# Altium schematic symbol library kmilo17pet-NSC_LDO.SchLib: 2675 symbols (part 44 of 65)
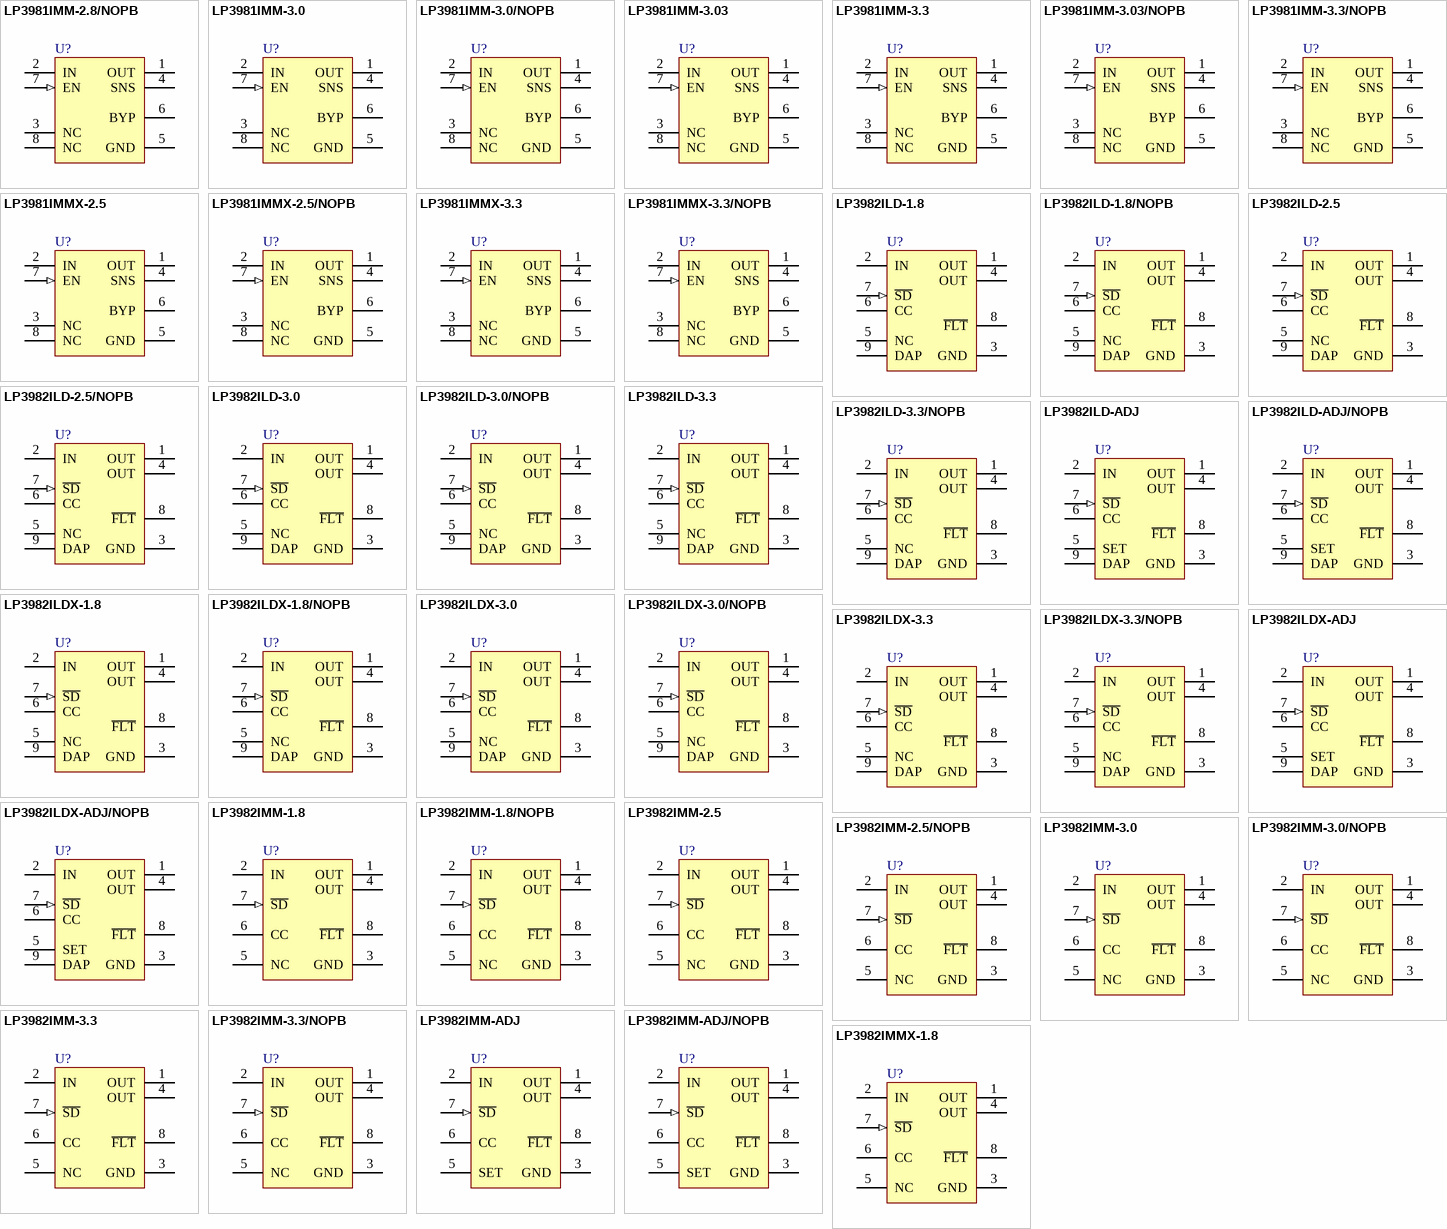
[diagram p110: symbols LP3981IMM-2.8/NOPB to LP3982IMMX-1.8]

## LP3982ILDX-3.0/NOPB
designator U?
Micropower, Ultra Low-Dropout, Low-Noise, 300mA CMOS Regulator, 8-pin LLP, Pb-Free; PartNumber: LP3982ILDX-3.0/NOPB; Manufacturer: National Semiconductor; PackageTopMarking: XYTT*LTB; PowerWise: N; CompType: LDO IC; High-Reliability: Y; DatasheetVersion: Mar-2006; PackageVersion: revB, Jun-2003; PackageReference: LDA08C; PackageDescription: LLP, Plastic, Dual, 2.5 x 3 x 0.75mm, 8 Lead, 0.5mm Pitch; RoHS: Y; PinCount: 8; Code_JEDEC: MO-229-WDED; ComponentLink1Description: Manufacturer URL; ComponentLink1URL: http://www.national.com/; ComponentLink2Description: LP3982 Datasheet; ComponentLink2URL: http://www.national.com/ds/LP/LP3982.pdf; ComponentLink3Description: LP3982 Web Page; ComponentLink3URL: http://www.national.com/pf/LP/LP3982.html; ComponentLink4Description: LDA08C Package Page; ComponentLink4URL: http://www.national.com/packaging/folders/lda08c.html
footprint LDA08C (PSON, 8-Leads, Body 2.5x3mm, Pitch 0.5mm, NSC Recommended)
pins: 1 OUT (power), 2 IN (power), 3 GND (power), 4 OUT (power), 5 NC, 6 CC, 7 ~{SD} (in), 8 ~{FLT} (oc), 9 DAP (power)

## LP3982ILDX-3.3
designator U?
Micropower, Ultra Low-Dropout, Low-Noise, 300mA CMOS Regulator, 8-pin LLP; PartNumber: LP3982ILDX-3.3; Manufacturer: National Semiconductor; PackageTopMarking: XYTT*LUB; PowerWise: N; CompType: LDO IC; High-Reliability: Y; DatasheetVersion: Mar-2006; PackageVersion: revB, Jun-2003; PackageReference: LDA08C; PackageDescription: LLP, Plastic, Dual, 2.5 x 3 x 0.75mm, 8 Lead, 0.5mm Pitch; RoHS: N; PinCount: 8; Code_JEDEC: MO-229-WDED; ComponentLink1Description: Manufacturer URL; ComponentLink1URL: http://www.national.com/; ComponentLink2Description: LP3982 Datasheet; ComponentLink2URL: http://www.national.com/ds/LP/LP3982.pdf; ComponentLink3Description: LP3982 Web Page; ComponentLink3URL: http://www.national.com/pf/LP/LP3982.html; ComponentLink4Description: LDA08C Package Page; ComponentLink4URL: http://www.national.com/packaging/folders/lda08c.html
footprint LDA08C (PSON, 8-Leads, Body 2.5x3mm, Pitch 0.5mm, NSC Recommended)
pins: 1 OUT (power), 2 IN (power), 3 GND (power), 4 OUT (power), 5 NC, 6 CC, 7 ~{SD} (in), 8 ~{FLT} (oc), 9 DAP (power)

## LP3982ILDX-3.3/NOPB
designator U?
Micropower, Ultra Low-Dropout, Low-Noise, 300mA CMOS Regulator, 8-pin LLP, Pb-Free; PartNumber: LP3982ILDX-3.3/NOPB; Manufacturer: National Semiconductor; PackageTopMarking: XYTT*LUB; PowerWise: N; CompType: LDO IC; High-Reliability: Y; DatasheetVersion: Mar-2006; PackageVersion: revB, Jun-2003; PackageReference: LDA08C; PackageDescription: LLP, Plastic, Dual, 2.5 x 3 x 0.75mm, 8 Lead, 0.5mm Pitch; RoHS: Y; PinCount: 8; Code_JEDEC: MO-229-WDED; ComponentLink1Description: Manufacturer URL; ComponentLink1URL: http://www.national.com/; ComponentLink2Description: LP3982 Datasheet; ComponentLink2URL: http://www.national.com/ds/LP/LP3982.pdf; ComponentLink3Description: LP3982 Web Page; ComponentLink3URL: http://www.national.com/pf/LP/LP3982.html; ComponentLink4Description: LDA08C Package Page; ComponentLink4URL: http://www.national.com/packaging/folders/lda08c.html
footprint LDA08C (PSON, 8-Leads, Body 2.5x3mm, Pitch 0.5mm, NSC Recommended)
pins: 1 OUT (power), 2 IN (power), 3 GND (power), 4 OUT (power), 5 NC, 6 CC, 7 ~{SD} (in), 8 ~{FLT} (oc), 9 DAP (power)

## LP3982ILDX-ADJ
designator U?
Micropower, Ultra Low-Dropout, Low-Noise, 300mA CMOS Regulator, 8-pin LLP; PartNumber: LP3982ILDX-ADJ; Manufacturer: National Semiconductor; PackageTopMarking: XYTT*LVB; PowerWise: N; CompType: LDO IC; High-Reliability: Y; DatasheetVersion: Mar-2006; PackageVersion: revB, Jun-2003; PackageReference: LDA08C; PackageDescription: LLP, Plastic, Dual, 2.5 x 3 x 0.75mm, 8 Lead, 0.5mm Pitch; RoHS: N; PinCount: 8; Code_JEDEC: MO-229-WDED; ComponentLink1Description: Manufacturer URL; ComponentLink1URL: http://www.national.com/; ComponentLink2Description: LP3982 Datasheet; ComponentLink2URL: http://www.national.com/ds/LP/LP3982.pdf; ComponentLink3Description: LP3982 Web Page; ComponentLink3URL: http://www.national.com/pf/LP/LP3982.html; ComponentLink4Description: LDA08C Package Page; ComponentLink4URL: http://www.national.com/packaging/folders/lda08c.html
footprint LDA08C (PSON, 8-Leads, Body 2.5x3mm, Pitch 0.5mm, NSC Recommended)
pins: 1 OUT (power), 2 IN (power), 3 GND (power), 4 OUT (power), 5 SET, 6 CC, 7 ~{SD} (in), 8 ~{FLT} (oc), 9 DAP (power)

## LP3982ILDX-ADJ/NOPB
designator U?
Micropower, Ultra Low-Dropout, Low-Noise, 300mA CMOS Regulator, 8-pin LLP, Pb-Free; PartNumber: LP3982ILDX-ADJ/NOPB; Manufacturer: National Semiconductor; PackageTopMarking: XYTT*LVB; PowerWise: N; CompType: LDO IC; High-Reliability: Y; DatasheetVersion: Mar-2006; PackageVersion: revB, Jun-2003; PackageReference: LDA08C; PackageDescription: LLP, Plastic, Dual, 2.5 x 3 x 0.75mm, 8 Lead, 0.5mm Pitch; RoHS: Y; PinCount: 8; Code_JEDEC: MO-229-WDED; ComponentLink1Description: Manufacturer URL; ComponentLink1URL: http://www.national.com/; ComponentLink2Description: LP3982 Datasheet; ComponentLink2URL: http://www.national.com/ds/LP/LP3982.pdf; ComponentLink3Description: LP3982 Web Page; ComponentLink3URL: http://www.national.com/pf/LP/LP3982.html; ComponentLink4Description: LDA08C Package Page; ComponentLink4URL: http://www.national.com/packaging/folders/lda08c.html
footprint LDA08C (PSON, 8-Leads, Body 2.5x3mm, Pitch 0.5mm, NSC Recommended)
pins: 1 OUT (power), 2 IN (power), 3 GND (power), 4 OUT (power), 5 SET, 6 CC, 7 ~{SD} (in), 8 ~{FLT} (oc), 9 DAP (power)

## LP3982IMM-1.8
designator U?
Micropower, Ultra Low-Dropout, Low-Noise, 300mA CMOS Regulator, 8-pin Mini SOIC; PartNumber: LP3982IMM-1.8; Manufacturer: National Semiconductor; PackageTopMarking: ZXTT*LENB; PowerWise: N; CompType: LDO IC; High-Reliability: Y; DatasheetVersion: Mar-2006; PackageVersion: revF, Apr-2008; PackageReference: MUA08A; PackageDescription: MINI SOIC, .118 x .118 x .034in, 8 Lead, .0256in Pitch; RoHS: N; PinCount: 8; Code_JEDEC: MO-187-AA; ComponentLink1Description: Manufacturer URL; ComponentLink1URL: http://www.national.com/; ComponentLink2Description: LP3982 Datasheet; ComponentLink2URL: http://www.national.com/ds/LP/LP3982.pdf; ComponentLink3Description: LP3982 Web Page; ComponentLink3URL: http://www.national.com/pf/LP/LP3982.html; ComponentLink4Description: MUA08A Package Page; ComponentLink4URL: http://www.national.com/packaging/folders/mua08a.html
footprint MUA08A_N (TSOP, 8-Leads, Body 3x3mm, Pitch 0.65mm, IPC Medium Density)
footprint MUA08A_L (TSOP, 8-Leads, Body 3x3mm, Pitch 0.65mm, IPC High Density)
footprint MUA08A_M (TSOP, 8-Leads, Body 3x3mm, Pitch 0.65mm, IPC Low Density)
pins: 1 OUT (power), 2 IN (power), 3 GND (power), 4 OUT (power), 5 NC, 6 CC, 7 ~{SD} (in), 8 ~{FLT} (oc)

## LP3982IMM-1.8/NOPB
designator U?
Micropower, Ultra Low-Dropout, Low-Noise, 300mA CMOS Regulator, 8-pin Mini SOIC, Pb-Free; PartNumber: LP3982IMM-1.8/NOPB; Manufacturer: National Semiconductor; PackageTopMarking: ZXTT*LENB; PowerWise: N; CompType: LDO IC; High-Reliability: Y; DatasheetVersion: Mar-2006; PackageVersion: revF, Apr-2008; PackageReference: MUA08A; PackageDescription: MINI SOIC, .118 x .118 x .034in, 8 Lead, .0256in Pitch; RoHS: Y; PinCount: 8; Code_JEDEC: MO-187-AA; ComponentLink1Description: Manufacturer URL; ComponentLink1URL: http://www.national.com/; ComponentLink2Description: LP3982 Datasheet; ComponentLink2URL: http://www.national.com/ds/LP/LP3982.pdf; ComponentLink3Description: LP3982 Web Page; ComponentLink3URL: http://www.national.com/pf/LP/LP3982.html; ComponentLink4Description: MUA08A Package Page; ComponentLink4URL: http://www.national.com/packaging/folders/mua08a.html
footprint MUA08A_N (TSOP, 8-Leads, Body 3x3mm, Pitch 0.65mm, IPC Medium Density)
footprint MUA08A_L (TSOP, 8-Leads, Body 3x3mm, Pitch 0.65mm, IPC High Density)
footprint MUA08A_M (TSOP, 8-Leads, Body 3x3mm, Pitch 0.65mm, IPC Low Density)
pins: 1 OUT (power), 2 IN (power), 3 GND (power), 4 OUT (power), 5 NC, 6 CC, 7 ~{SD} (in), 8 ~{FLT} (oc)

## LP3982IMM-2.5
designator U?
Micropower, Ultra Low-Dropout, Low-Noise, 300mA CMOS Regulator, 8-pin Mini SOIC; PartNumber: LP3982IMM-2.5; Manufacturer: National Semiconductor; PackageTopMarking: ZXTT*LEPB; PowerWise: N; CompType: LDO IC; High-Reliability: Y; DatasheetVersion: Mar-2006; PackageVersion: revF, Apr-2008; PackageReference: MUA08A; PackageDescription: MINI SOIC, .118 x .118 x .034in, 8 Lead, .0256in Pitch; RoHS: N; PinCount: 8; Code_JEDEC: MO-187-AA; ComponentLink1Description: Manufacturer URL; ComponentLink1URL: http://www.national.com/; ComponentLink2Description: LP3982 Datasheet; ComponentLink2URL: http://www.national.com/ds/LP/LP3982.pdf; ComponentLink3Description: LP3982 Web Page; ComponentLink3URL: http://www.national.com/pf/LP/LP3982.html; ComponentLink4Description: MUA08A Package Page; ComponentLink4URL: http://www.national.com/packaging/folders/mua08a.html
footprint MUA08A_N (TSOP, 8-Leads, Body 3x3mm, Pitch 0.65mm, IPC Medium Density)
footprint MUA08A_L (TSOP, 8-Leads, Body 3x3mm, Pitch 0.65mm, IPC High Density)
footprint MUA08A_M (TSOP, 8-Leads, Body 3x3mm, Pitch 0.65mm, IPC Low Density)
pins: 1 OUT (power), 2 IN (power), 3 GND (power), 4 OUT (power), 5 NC, 6 CC, 7 ~{SD} (in), 8 ~{FLT} (oc)

## LP3982IMM-2.5/NOPB
designator U?
Micropower, Ultra Low-Dropout, Low-Noise, 300mA CMOS Regulator, 8-pin Mini SOIC, Pb-Free; PartNumber: LP3982IMM-2.5/NOPB; Manufacturer: National Semiconductor; PackageTopMarking: ZXTT*LEPB; PowerWise: N; CompType: LDO IC; High-Reliability: Y; DatasheetVersion: Mar-2006; PackageVersion: revF, Apr-2008; PackageReference: MUA08A; PackageDescription: MINI SOIC, .118 x .118 x .034in, 8 Lead, .0256in Pitch; RoHS: Y; PinCount: 8; Code_JEDEC: MO-187-AA; ComponentLink1Description: Manufacturer URL; ComponentLink1URL: http://www.national.com/; ComponentLink2Description: LP3982 Datasheet; ComponentLink2URL: http://www.national.com/ds/LP/LP3982.pdf; ComponentLink3Description: LP3982 Web Page; ComponentLink3URL: http://www.national.com/pf/LP/LP3982.html; ComponentLink4Description: MUA08A Package Page; ComponentLink4URL: http://www.national.com/packaging/folders/mua08a.html
footprint MUA08A_N (TSOP, 8-Leads, Body 3x3mm, Pitch 0.65mm, IPC Medium Density)
footprint MUA08A_L (TSOP, 8-Leads, Body 3x3mm, Pitch 0.65mm, IPC High Density)
footprint MUA08A_M (TSOP, 8-Leads, Body 3x3mm, Pitch 0.65mm, IPC Low Density)
pins: 1 OUT (power), 2 IN (power), 3 GND (power), 4 OUT (power), 5 NC, 6 CC, 7 ~{SD} (in), 8 ~{FLT} (oc)

## LP3982IMM-3.0
designator U?
Micropower, Ultra Low-Dropout, Low-Noise, 300mA CMOS Regulator, 8-pin Mini SOIC; PartNumber: LP3982IMM-3.0; Manufacturer: National Semiconductor; PackageTopMarking: ZXTT*LETB; PowerWise: N; CompType: LDO IC; High-Reliability: Y; DatasheetVersion: Mar-2006; PackageVersion: revF, Apr-2008; PackageReference: MUA08A; PackageDescription: MINI SOIC, .118 x .118 x .034in, 8 Lead, .0256in Pitch; RoHS: N; PinCount: 8; Code_JEDEC: MO-187-AA; ComponentLink1Description: Manufacturer URL; ComponentLink1URL: http://www.national.com/; ComponentLink2Description: LP3982 Datasheet; ComponentLink2URL: http://www.national.com/ds/LP/LP3982.pdf; ComponentLink3Description: LP3982 Web Page; ComponentLink3URL: http://www.national.com/pf/LP/LP3982.html; ComponentLink4Description: MUA08A Package Page; ComponentLink4URL: http://www.national.com/packaging/folders/mua08a.html
footprint MUA08A_N (TSOP, 8-Leads, Body 3x3mm, Pitch 0.65mm, IPC Medium Density)
footprint MUA08A_L (TSOP, 8-Leads, Body 3x3mm, Pitch 0.65mm, IPC High Density)
footprint MUA08A_M (TSOP, 8-Leads, Body 3x3mm, Pitch 0.65mm, IPC Low Density)
pins: 1 OUT (power), 2 IN (power), 3 GND (power), 4 OUT (power), 5 NC, 6 CC, 7 ~{SD} (in), 8 ~{FLT} (oc)

## LP3982IMM-3.0/NOPB
designator U?
Micropower, Ultra Low-Dropout, Low-Noise, 300mA CMOS Regulator, 8-pin Mini SOIC, Pb-Free; PartNumber: LP3982IMM-3.0/NOPB; Manufacturer: National Semiconductor; PackageTopMarking: ZXTT*LETB; PowerWise: N; CompType: LDO IC; High-Reliability: Y; DatasheetVersion: Mar-2006; PackageVersion: revF, Apr-2008; PackageReference: MUA08A; PackageDescription: MINI SOIC, .118 x .118 x .034in, 8 Lead, .0256in Pitch; RoHS: Y; PinCount: 8; Code_JEDEC: MO-187-AA; ComponentLink1Description: Manufacturer URL; ComponentLink1URL: http://www.national.com/; ComponentLink2Description: LP3982 Datasheet; ComponentLink2URL: http://www.national.com/ds/LP/LP3982.pdf; ComponentLink3Description: LP3982 Web Page; ComponentLink3URL: http://www.national.com/pf/LP/LP3982.html; ComponentLink4Description: MUA08A Package Page; ComponentLink4URL: http://www.national.com/packaging/folders/mua08a.html
footprint MUA08A_N (TSOP, 8-Leads, Body 3x3mm, Pitch 0.65mm, IPC Medium Density)
footprint MUA08A_L (TSOP, 8-Leads, Body 3x3mm, Pitch 0.65mm, IPC High Density)
footprint MUA08A_M (TSOP, 8-Leads, Body 3x3mm, Pitch 0.65mm, IPC Low Density)
pins: 1 OUT (power), 2 IN (power), 3 GND (power), 4 OUT (power), 5 NC, 6 CC, 7 ~{SD} (in), 8 ~{FLT} (oc)

## LP3982IMM-3.3
designator U?
Micropower, Ultra Low-Dropout, Low-Noise, 300mA CMOS Regulator, 8-pin Mini SOIC; PartNumber: LP3982IMM-3.3; Manufacturer: National Semiconductor; PackageTopMarking: ZXTT*LEUB; PowerWise: N; CompType: LDO IC; High-Reliability: Y; DatasheetVersion: Mar-2006; PackageVersion: revF, Apr-2008; PackageReference: MUA08A; PackageDescription: MINI SOIC, .118 x .118 x .034in, 8 Lead, .0256in Pitch; RoHS: N; PinCount: 8; Code_JEDEC: MO-187-AA; ComponentLink1Description: Manufacturer URL; ComponentLink1URL: http://www.national.com/; ComponentLink2Description: LP3982 Datasheet; ComponentLink2URL: http://www.national.com/ds/LP/LP3982.pdf; ComponentLink3Description: LP3982 Web Page; ComponentLink3URL: http://www.national.com/pf/LP/LP3982.html; ComponentLink4Description: MUA08A Package Page; ComponentLink4URL: http://www.national.com/packaging/folders/mua08a.html
footprint MUA08A_N (TSOP, 8-Leads, Body 3x3mm, Pitch 0.65mm, IPC Medium Density)
footprint MUA08A_L (TSOP, 8-Leads, Body 3x3mm, Pitch 0.65mm, IPC High Density)
footprint MUA08A_M (TSOP, 8-Leads, Body 3x3mm, Pitch 0.65mm, IPC Low Density)
pins: 1 OUT (power), 2 IN (power), 3 GND (power), 4 OUT (power), 5 NC, 6 CC, 7 ~{SD} (in), 8 ~{FLT} (oc)

## LP3982IMM-3.3/NOPB
designator U?
Micropower, Ultra Low-Dropout, Low-Noise, 300mA CMOS Regulator, 8-pin Mini SOIC, Pb-Free; PartNumber: LP3982IMM-3.3/NOPB; Manufacturer: National Semiconductor; PackageTopMarking: ZXTT*LEUB; PowerWise: N; CompType: LDO IC; High-Reliability: Y; DatasheetVersion: Mar-2006; PackageVersion: revF, Apr-2008; PackageReference: MUA08A; PackageDescription: MINI SOIC, .118 x .118 x .034in, 8 Lead, .0256in Pitch; RoHS: Y; PinCount: 8; Code_JEDEC: MO-187-AA; ComponentLink1Description: Manufacturer URL; ComponentLink1URL: http://www.national.com/; ComponentLink2Description: LP3982 Datasheet; ComponentLink2URL: http://www.national.com/ds/LP/LP3982.pdf; ComponentLink3Description: LP3982 Web Page; ComponentLink3URL: http://www.national.com/pf/LP/LP3982.html; ComponentLink4Description: MUA08A Package Page; ComponentLink4URL: http://www.national.com/packaging/folders/mua08a.html
footprint MUA08A_N (TSOP, 8-Leads, Body 3x3mm, Pitch 0.65mm, IPC Medium Density)
footprint MUA08A_L (TSOP, 8-Leads, Body 3x3mm, Pitch 0.65mm, IPC High Density)
footprint MUA08A_M (TSOP, 8-Leads, Body 3x3mm, Pitch 0.65mm, IPC Low Density)
pins: 1 OUT (power), 2 IN (power), 3 GND (power), 4 OUT (power), 5 NC, 6 CC, 7 ~{SD} (in), 8 ~{FLT} (oc)

## LP3982IMM-ADJ
designator U?
Micropower, Ultra Low-Dropout, Low-Noise, 300mA CMOS Regulator, 8-pin Mini SOIC; PartNumber: LP3982IMM-ADJ; Manufacturer: National Semiconductor; PackageTopMarking: ZXTT*LEVB; PowerWise: N; CompType: LDO IC; High-Reliability: Y; DatasheetVersion: Mar-2006; PackageVersion: revF, Apr-2008; PackageReference: MUA08A; PackageDescription: MINI SOIC, .118 x .118 x .034in, 8 Lead, .0256in Pitch; RoHS: N; PinCount: 8; Code_JEDEC: MO-187-AA; ComponentLink1Description: Manufacturer URL; ComponentLink1URL: http://www.national.com/; ComponentLink2Description: LP3982 Datasheet; ComponentLink2URL: http://www.national.com/ds/LP/LP3982.pdf; ComponentLink3Description: LP3982 Web Page; ComponentLink3URL: http://www.national.com/pf/LP/LP3982.html; ComponentLink4Description: MUA08A Package Page; ComponentLink4URL: http://www.national.com/packaging/folders/mua08a.html
footprint MUA08A_N (TSOP, 8-Leads, Body 3x3mm, Pitch 0.65mm, IPC Medium Density)
footprint MUA08A_L (TSOP, 8-Leads, Body 3x3mm, Pitch 0.65mm, IPC High Density)
footprint MUA08A_M (TSOP, 8-Leads, Body 3x3mm, Pitch 0.65mm, IPC Low Density)
pins: 1 OUT (power), 2 IN (power), 3 GND (power), 4 OUT (power), 5 SET, 6 CC, 7 ~{SD} (in), 8 ~{FLT} (oc)

## LP3982IMM-ADJ/NOPB
designator U?
Micropower, Ultra Low-Dropout, Low-Noise, 300mA CMOS Regulator, 8-pin Mini SOIC, Pb-Free; PartNumber: LP3982IMM-ADJ/NOPB; Manufacturer: National Semiconductor; PackageTopMarking: ZXTT*LEVB; PowerWise: N; CompType: LDO IC; High-Reliability: Y; DatasheetVersion: Mar-2006; PackageVersion: revF, Apr-2008; PackageReference: MUA08A; PackageDescription: MINI SOIC, .118 x .118 x .034in, 8 Lead, .0256in Pitch; RoHS: Y; PinCount: 8; Code_JEDEC: MO-187-AA; ComponentLink1Description: Manufacturer URL; ComponentLink1URL: http://www.national.com/; ComponentLink2Description: LP3982 Datasheet; ComponentLink2URL: http://www.national.com/ds/LP/LP3982.pdf; ComponentLink3Description: LP3982 Web Page; ComponentLink3URL: http://www.national.com/pf/LP/LP3982.html; ComponentLink4Description: MUA08A Package Page; ComponentLink4URL: http://www.national.com/packaging/folders/mua08a.html
footprint MUA08A_N (TSOP, 8-Leads, Body 3x3mm, Pitch 0.65mm, IPC Medium Density)
footprint MUA08A_L (TSOP, 8-Leads, Body 3x3mm, Pitch 0.65mm, IPC High Density)
footprint MUA08A_M (TSOP, 8-Leads, Body 3x3mm, Pitch 0.65mm, IPC Low Density)
pins: 1 OUT (power), 2 IN (power), 3 GND (power), 4 OUT (power), 5 SET, 6 CC, 7 ~{SD} (in), 8 ~{FLT} (oc)

## LP3982IMMX-1.8
designator U?
Micropower, Ultra Low-Dropout, Low-Noise, 300mA CMOS Regulator, 8-pin Mini SOIC; PartNumber: LP3982IMMX-1.8; Manufacturer: National Semiconductor; PackageTopMarking: ZXTT*LENB; PowerWise: N; CompType: LDO IC; High-Reliability: Y; DatasheetVersion: Mar-2006; PackageVersion: revF, Apr-2008; PackageReference: MUA08A; PackageDescription: MINI SOIC, .118 x .118 x .034in, 8 Lead, .0256in Pitch; RoHS: N; PinCount: 8; Code_JEDEC: MO-187-AA; ComponentLink1Description: Manufacturer URL; ComponentLink1URL: http://www.national.com/; ComponentLink2Description: LP3982 Datasheet; ComponentLink2URL: http://www.national.com/ds/LP/LP3982.pdf; ComponentLink3Description: LP3982 Web Page; ComponentLink3URL: http://www.national.com/pf/LP/LP3982.html; ComponentLink4Description: MUA08A Package Page; ComponentLink4URL: http://www.national.com/packaging/folders/mua08a.html
footprint MUA08A_N (TSOP, 8-Leads, Body 3x3mm, Pitch 0.65mm, IPC Medium Density)
footprint MUA08A_L (TSOP, 8-Leads, Body 3x3mm, Pitch 0.65mm, IPC High Density)
footprint MUA08A_M (TSOP, 8-Leads, Body 3x3mm, Pitch 0.65mm, IPC Low Density)
pins: 1 OUT (power), 2 IN (power), 3 GND (power), 4 OUT (power), 5 NC, 6 CC, 7 ~{SD} (in), 8 ~{FLT} (oc)

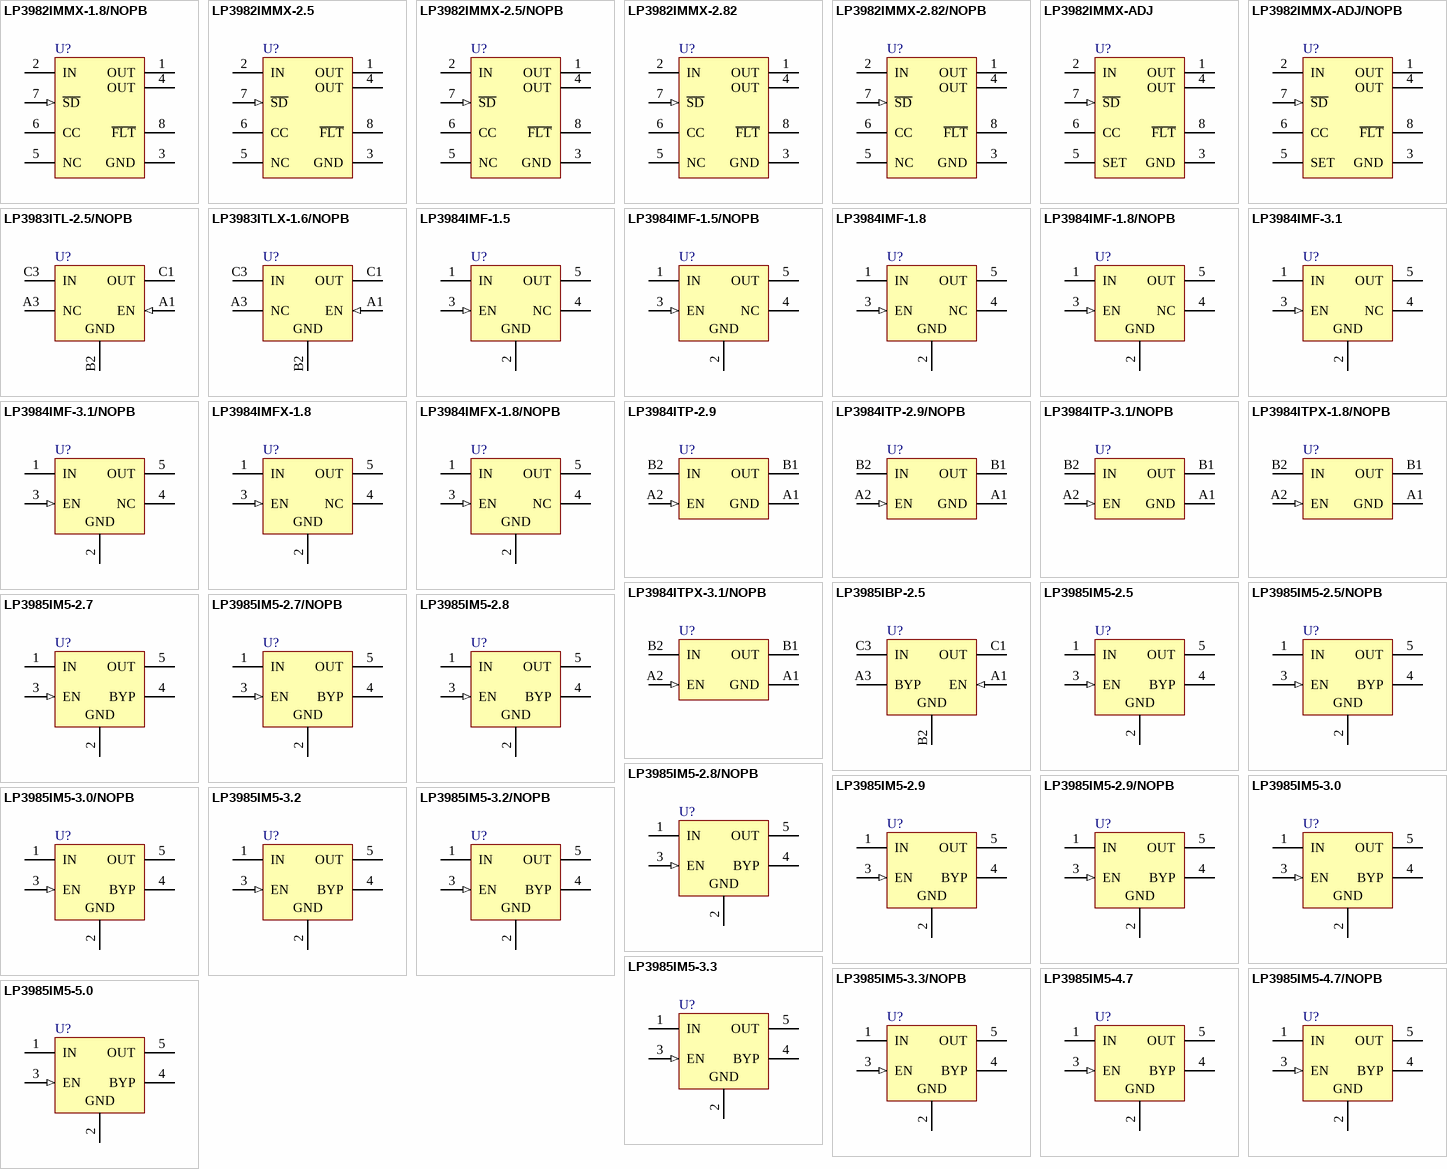
[diagram p45: symbols LP3982IMMX-1.8/NOPB to LP3985IM5-5.0]

## LP3982IMMX-1.8/NOPB
designator U?
Micropower, Ultra Low-Dropout, Low-Noise, 300mA CMOS Regulator, 8-pin Mini SOIC, Pb-Free; PartNumber: LP3982IMMX-1.8/NOPB; Manufacturer: National Semiconductor; PackageTopMarking: ZXTT*LENB; PowerWise: N; CompType: LDO IC; High-Reliability: Y; DatasheetVersion: Mar-2006; PackageVersion: revF, Apr-2008; PackageReference: MUA08A; PackageDescription: MINI SOIC, .118 x .118 x .034in, 8 Lead, .0256in Pitch; RoHS: Y; PinCount: 8; Code_JEDEC: MO-187-AA; ComponentLink1Description: Manufacturer URL; ComponentLink1URL: http://www.national.com/; ComponentLink2Description: LP3982 Datasheet; ComponentLink2URL: http://www.national.com/ds/LP/LP3982.pdf; ComponentLink3Description: LP3982 Web Page; ComponentLink3URL: http://www.national.com/pf/LP/LP3982.html; ComponentLink4Description: MUA08A Package Page; ComponentLink4URL: http://www.national.com/packaging/folders/mua08a.html
footprint MUA08A_N (TSOP, 8-Leads, Body 3x3mm, Pitch 0.65mm, IPC Medium Density)
footprint MUA08A_L (TSOP, 8-Leads, Body 3x3mm, Pitch 0.65mm, IPC High Density)
footprint MUA08A_M (TSOP, 8-Leads, Body 3x3mm, Pitch 0.65mm, IPC Low Density)
pins: 1 OUT (power), 2 IN (power), 3 GND (power), 4 OUT (power), 5 NC, 6 CC, 7 ~{SD} (in), 8 ~{FLT} (oc)

## LP3982IMMX-2.5
designator U?
Micropower, Ultra Low-Dropout, Low-Noise, 300mA CMOS Regulator, 8-pin Mini SOIC; PartNumber: LP3982IMMX-2.5; Manufacturer: National Semiconductor; PackageTopMarking: ZXTT*LEPB; PowerWise: N; CompType: LDO IC; High-Reliability: Y; DatasheetVersion: Mar-2006; PackageVersion: revF, Apr-2008; PackageReference: MUA08A; PackageDescription: MINI SOIC, .118 x .118 x .034in, 8 Lead, .0256in Pitch; RoHS: N; PinCount: 8; Code_JEDEC: MO-187-AA; ComponentLink1Description: Manufacturer URL; ComponentLink1URL: http://www.national.com/; ComponentLink2Description: LP3982 Datasheet; ComponentLink2URL: http://www.national.com/ds/LP/LP3982.pdf; ComponentLink3Description: LP3982 Web Page; ComponentLink3URL: http://www.national.com/pf/LP/LP3982.html; ComponentLink4Description: MUA08A Package Page; ComponentLink4URL: http://www.national.com/packaging/folders/mua08a.html
footprint MUA08A_N (TSOP, 8-Leads, Body 3x3mm, Pitch 0.65mm, IPC Medium Density)
footprint MUA08A_L (TSOP, 8-Leads, Body 3x3mm, Pitch 0.65mm, IPC High Density)
footprint MUA08A_M (TSOP, 8-Leads, Body 3x3mm, Pitch 0.65mm, IPC Low Density)
pins: 1 OUT (power), 2 IN (power), 3 GND (power), 4 OUT (power), 5 NC, 6 CC, 7 ~{SD} (in), 8 ~{FLT} (oc)

## LP3982IMMX-2.5/NOPB
designator U?
Micropower, Ultra Low-Dropout, Low-Noise, 300mA CMOS Regulator, 8-pin Mini SOIC, Pb-Free; PartNumber: LP3982IMMX-2.5/NOPB; Manufacturer: National Semiconductor; PackageTopMarking: ZXTT*LEPB; PowerWise: N; CompType: LDO IC; High-Reliability: Y; DatasheetVersion: Mar-2006; PackageVersion: revF, Apr-2008; PackageReference: MUA08A; PackageDescription: MINI SOIC, .118 x .118 x .034in, 8 Lead, .0256in Pitch; RoHS: Y; PinCount: 8; Code_JEDEC: MO-187-AA; ComponentLink1Description: Manufacturer URL; ComponentLink1URL: http://www.national.com/; ComponentLink2Description: LP3982 Datasheet; ComponentLink2URL: http://www.national.com/ds/LP/LP3982.pdf; ComponentLink3Description: LP3982 Web Page; ComponentLink3URL: http://www.national.com/pf/LP/LP3982.html; ComponentLink4Description: MUA08A Package Page; ComponentLink4URL: http://www.national.com/packaging/folders/mua08a.html
footprint MUA08A_N (TSOP, 8-Leads, Body 3x3mm, Pitch 0.65mm, IPC Medium Density)
footprint MUA08A_L (TSOP, 8-Leads, Body 3x3mm, Pitch 0.65mm, IPC High Density)
footprint MUA08A_M (TSOP, 8-Leads, Body 3x3mm, Pitch 0.65mm, IPC Low Density)
pins: 1 OUT (power), 2 IN (power), 3 GND (power), 4 OUT (power), 5 NC, 6 CC, 7 ~{SD} (in), 8 ~{FLT} (oc)

## LP3982IMMX-2.82
designator U?
Micropower, Ultra Low-Dropout, Low-Noise, 300mA CMOS Regulator, 8-pin Mini SOIC; PartNumber: LP3982IMMX-2.82; Manufacturer: National Semiconductor; PackageTopMarking: ZXTT*LESB; PowerWise: N; CompType: LDO IC; High-Reliability: Y; DatasheetVersion: Mar-2006; PackageVersion: revF, Apr-2008; PackageReference: MUA08A; PackageDescription: MINI SOIC, .118 x .118 x .034in, 8 Lead, .0256in Pitch; RoHS: N; PinCount: 8; Code_JEDEC: MO-187-AA; ComponentLink1Description: Manufacturer URL; ComponentLink1URL: http://www.national.com/; ComponentLink2Description: LP3982 Datasheet; ComponentLink2URL: http://www.national.com/ds/LP/LP3982.pdf; ComponentLink3Description: LP3982 Web Page; ComponentLink3URL: http://www.national.com/pf/LP/LP3982.html; ComponentLink4Description: MUA08A Package Page; ComponentLink4URL: http://www.national.com/packaging/folders/mua08a.html
footprint MUA08A_N (TSOP, 8-Leads, Body 3x3mm, Pitch 0.65mm, IPC Medium Density)
footprint MUA08A_L (TSOP, 8-Leads, Body 3x3mm, Pitch 0.65mm, IPC High Density)
footprint MUA08A_M (TSOP, 8-Leads, Body 3x3mm, Pitch 0.65mm, IPC Low Density)
pins: 1 OUT (power), 2 IN (power), 3 GND (power), 4 OUT (power), 5 NC, 6 CC, 7 ~{SD} (in), 8 ~{FLT} (oc)

## LP3982IMMX-2.82/NOPB
designator U?
Micropower, Ultra Low-Dropout, Low-Noise, 300mA CMOS Regulator, 8-pin Mini SOIC, Pb-Free; PartNumber: LP3982IMMX-2.82/NOPB; Manufacturer: National Semiconductor; PackageTopMarking: ZXTT*LESB; PowerWise: N; CompType: LDO IC; High-Reliability: Y; DatasheetVersion: Mar-2006; PackageVersion: revF, Apr-2008; PackageReference: MUA08A; PackageDescription: MINI SOIC, .118 x .118 x .034in, 8 Lead, .0256in Pitch; RoHS: Y; PinCount: 8; Code_JEDEC: MO-187-AA; ComponentLink1Description: Manufacturer URL; ComponentLink1URL: http://www.national.com/; ComponentLink2Description: LP3982 Datasheet; ComponentLink2URL: http://www.national.com/ds/LP/LP3982.pdf; ComponentLink3Description: LP3982 Web Page; ComponentLink3URL: http://www.national.com/pf/LP/LP3982.html; ComponentLink4Description: MUA08A Package Page; ComponentLink4URL: http://www.national.com/packaging/folders/mua08a.html
footprint MUA08A_N (TSOP, 8-Leads, Body 3x3mm, Pitch 0.65mm, IPC Medium Density)
footprint MUA08A_L (TSOP, 8-Leads, Body 3x3mm, Pitch 0.65mm, IPC High Density)
footprint MUA08A_M (TSOP, 8-Leads, Body 3x3mm, Pitch 0.65mm, IPC Low Density)
pins: 1 OUT (power), 2 IN (power), 3 GND (power), 4 OUT (power), 5 NC, 6 CC, 7 ~{SD} (in), 8 ~{FLT} (oc)

## LP3982IMMX-ADJ
designator U?
Micropower, Ultra Low-Dropout, Low-Noise, 300mA CMOS Regulator, 8-pin Mini SOIC; PartNumber: LP3982IMMX-ADJ; Manufacturer: National Semiconductor; PackageTopMarking: ZXTT*LEVB; PowerWise: N; CompType: LDO IC; High-Reliability: Y; DatasheetVersion: Mar-2006; PackageVersion: revF, Apr-2008; PackageReference: MUA08A; PackageDescription: MINI SOIC, .118 x .118 x .034in, 8 Lead, .0256in Pitch; RoHS: N; PinCount: 8; Code_JEDEC: MO-187-AA; ComponentLink1Description: Manufacturer URL; ComponentLink1URL: http://www.national.com/; ComponentLink2Description: LP3982 Datasheet; ComponentLink2URL: http://www.national.com/ds/LP/LP3982.pdf; ComponentLink3Description: LP3982 Web Page; ComponentLink3URL: http://www.national.com/pf/LP/LP3982.html; ComponentLink4Description: MUA08A Package Page; ComponentLink4URL: http://www.national.com/packaging/folders/mua08a.html
footprint MUA08A_N (TSOP, 8-Leads, Body 3x3mm, Pitch 0.65mm, IPC Medium Density)
footprint MUA08A_L (TSOP, 8-Leads, Body 3x3mm, Pitch 0.65mm, IPC High Density)
footprint MUA08A_M (TSOP, 8-Leads, Body 3x3mm, Pitch 0.65mm, IPC Low Density)
pins: 1 OUT (power), 2 IN (power), 3 GND (power), 4 OUT (power), 5 SET, 6 CC, 7 ~{SD} (in), 8 ~{FLT} (oc)

## LP3982IMMX-ADJ/NOPB
designator U?
Micropower, Ultra Low-Dropout, Low-Noise, 300mA CMOS Regulator, 8-pin Mini SOIC, Pb-Free; PartNumber: LP3982IMMX-ADJ/NOPB; Manufacturer: National Semiconductor; PackageTopMarking: ZXTT*LEVB; PowerWise: N; CompType: LDO IC; High-Reliability: Y; DatasheetVersion: Mar-2006; PackageVersion: revF, Apr-2008; PackageReference: MUA08A; PackageDescription: MINI SOIC, .118 x .118 x .034in, 8 Lead, .0256in Pitch; RoHS: Y; PinCount: 8; Code_JEDEC: MO-187-AA; ComponentLink1Description: Manufacturer URL; ComponentLink1URL: http://www.national.com/; ComponentLink2Description: LP3982 Datasheet; ComponentLink2URL: http://www.national.com/ds/LP/LP3982.pdf; ComponentLink3Description: LP3982 Web Page; ComponentLink3URL: http://www.national.com/pf/LP/LP3982.html; ComponentLink4Description: MUA08A Package Page; ComponentLink4URL: http://www.national.com/packaging/folders/mua08a.html
footprint MUA08A_N (TSOP, 8-Leads, Body 3x3mm, Pitch 0.65mm, IPC Medium Density)
footprint MUA08A_L (TSOP, 8-Leads, Body 3x3mm, Pitch 0.65mm, IPC High Density)
footprint MUA08A_M (TSOP, 8-Leads, Body 3x3mm, Pitch 0.65mm, IPC Low Density)
pins: 1 OUT (power), 2 IN (power), 3 GND (power), 4 OUT (power), 5 SET, 6 CC, 7 ~{SD} (in), 8 ~{FLT} (oc)

## LP3983ITL-2.5/NOPB
designator U?
Micropower, Low Quiescent Current, CMOS Voltage Regulator, 5-pin Micro SMD, Pb-Free; PartNumber: LP3983ITL-2.5/NOPB; Manufacturer: National Semiconductor; PackageTopMarking: XV*I 3; PowerWise: Y; CompType: LDO IC; DatasheetVersion: May-2005; PackageVersion: revC, Feb-2005; PackageReference: TLA05ADA; PackageDescription: Thin Micro SMD, 5 Bump (Large), 0.5mm Pitch; RoHS: Y; PinCount: 5; High-Reliability: Y; ComponentLink1Description: Manufacturer URL; ComponentLink1URL: http://www.national.com/; ComponentLink2Description: LP3983 Datasheet; ComponentLink2URL: http://www.national.com/ds/LP/LP3983.pdf; ComponentLink3Description: LP3983 Web Page; ComponentLink3URL: http://www.national.com/pf/LP/LP3983.html; ComponentLink4Description: TLA05ADA Package Page; ComponentLink4URL: http://www.national.com/packaging/folders/tla05ada.html
footprint TLA05ADA (Micro SMD, 5-Leads, Body 1.45x1.01mm, Pitch 0.5mm, NSC Recommended)
pins: A1 EN (in), A3 NC, B2 GND (power), C1 OUT (power), C3 IN (power)

## LP3983ITLX-1.6/NOPB
designator U?
Micropower, Low Quiescent Current, CMOS Voltage Regulator, 5-pin Micro SMD, Pb-Free; PartNumber: LP3983ITLX-1.6/NOPB; Manufacturer: National Semiconductor; PackageTopMarking: XV*I 3; PowerWise: Y; CompType: LDO IC; DatasheetVersion: May-2005; PackageVersion: revC, Feb-2005; PackageReference: TLA05ADA; PackageDescription: Thin Micro SMD, 5 Bump (Large), 0.5mm Pitch; RoHS: Y; PinCount: 5; High-Reliability: Y; ComponentLink1Description: Manufacturer URL; ComponentLink1URL: http://www.national.com/; ComponentLink2Description: LP3983 Datasheet; ComponentLink2URL: http://www.national.com/ds/LP/LP3983.pdf; ComponentLink3Description: LP3983 Web Page; ComponentLink3URL: http://www.national.com/pf/LP/LP3983.html; ComponentLink4Description: TLA05ADA Package Page; ComponentLink4URL: http://www.national.com/packaging/folders/tla05ada.html
footprint TLA05ADA (Micro SMD, 5-Leads, Body 1.45x1.01mm, Pitch 0.5mm, NSC Recommended)
pins: A1 EN (in), A3 NC, B2 GND (power), C1 OUT (power), C3 IN (power)

## LP3984IMF-1.5
designator U?
Micropower, 150mA Ultra Low-Dropout CMOS Voltage Regulator in Subminiature 4-I/O Micro SMD Package, 5-pin SOT-23; PartNumber: LP3984IMF-1.5; Manufacturer: National Semiconductor; PackageTopMarking: LEAB*XTT; PowerWise: N; CompType: LDO IC; High-Reliability: Y; DatasheetVersion: May-2004; PackageVersion: revD, Aug-2008; PackageReference: MF05A; PackageDescription: Molded SOT-23, .115 x .063 x .040 in Body, 5 Lead, .0375 in Pitch; RoHS: N; PinCount: 5; ComponentLink1Description: Manufacturer URL; ComponentLink1URL: http://www.national.com/; ComponentLink2Description: LP3984 Datasheet; ComponentLink2URL: http://www.national.com/ds/LP/LP3984.pdf; ComponentLink3Description: LP3984 Web Page; ComponentLink3URL: http://www.national.com/pf/LP/LP3984.html; ComponentLink4Description: MF05A Package Page; ComponentLink4URL: http://www.national.com/packaging/folders/mf05a.html
footprint MF05A_N (SOT23, 5-Leads, Body 2.9x1.6mm, Pitch 0.95mm, Lead Span 2.8mm, IPC Medium Density)
footprint MF05A_L (SOT23, 5-Leads, Body 2.9x1.6mm, Pitch 0.95mm, Lead Span 2.8mm, IPC High Density)
footprint MF05A_M (SOT23, 5-Leads, Body 2.9x1.6mm, Pitch 0.95mm, Lead Span 2.8mm, IPC Low Density)
pins: 1 IN (power), 2 GND (power), 3 EN (in), 4 NC, 5 OUT (power)

## LP3984IMF-1.5/NOPB
designator U?
Micropower, 150mA Ultra Low-Dropout CMOS Voltage Regulator in Subminiature 4-I/O Micro SMD Package, 5-pin SOT-23, Pb-Free; PartNumber: LP3984IMF-1.5/NOPB; Manufacturer: National Semiconductor; PackageTopMarking: LEAB*XTT; PowerWise: N; CompType: LDO IC; High-Reliability: Y; DatasheetVersion: May-2004; PackageVersion: revD, Aug-2008; PackageReference: MF05A; PackageDescription: Molded SOT-23, .115 x .063 x .040 in Body, 5 Lead, .0375 in Pitch; RoHS: Y; PinCount: 5; ComponentLink1Description: Manufacturer URL; ComponentLink1URL: http://www.national.com/; ComponentLink2Description: LP3984 Datasheet; ComponentLink2URL: http://www.national.com/ds/LP/LP3984.pdf; ComponentLink3Description: LP3984 Web Page; ComponentLink3URL: http://www.national.com/pf/LP/LP3984.html; ComponentLink4Description: MF05A Package Page; ComponentLink4URL: http://www.national.com/packaging/folders/mf05a.html
footprint MF05A_N (SOT23, 5-Leads, Body 2.9x1.6mm, Pitch 0.95mm, Lead Span 2.8mm, IPC Medium Density)
footprint MF05A_L (SOT23, 5-Leads, Body 2.9x1.6mm, Pitch 0.95mm, Lead Span 2.8mm, IPC High Density)
footprint MF05A_M (SOT23, 5-Leads, Body 2.9x1.6mm, Pitch 0.95mm, Lead Span 2.8mm, IPC Low Density)
pins: 1 IN (power), 2 GND (power), 3 EN (in), 4 NC, 5 OUT (power)

## LP3984IMF-1.8
designator U?
Micropower, 150mA Ultra Low-Dropout CMOS Voltage Regulator in Subminiature 4-I/O Micro SMD Package, 5-pin SOT-23; PartNumber: LP3984IMF-1.8; Manufacturer: National Semiconductor; PackageTopMarking: LEBB*XTT; PowerWise: N; CompType: LDO IC; High-Reliability: Y; DatasheetVersion: May-2004; PackageVersion: revD, Aug-2008; PackageReference: MF05A; PackageDescription: Molded SOT-23, .115 x .063 x .040 in Body, 5 Lead, .0375 in Pitch; RoHS: N; PinCount: 5; ComponentLink1Description: Manufacturer URL; ComponentLink1URL: http://www.national.com/; ComponentLink2Description: LP3984 Datasheet; ComponentLink2URL: http://www.national.com/ds/LP/LP3984.pdf; ComponentLink3Description: LP3984 Web Page; ComponentLink3URL: http://www.national.com/pf/LP/LP3984.html; ComponentLink4Description: MF05A Package Page; ComponentLink4URL: http://www.national.com/packaging/folders/mf05a.html
footprint MF05A_N (SOT23, 5-Leads, Body 2.9x1.6mm, Pitch 0.95mm, Lead Span 2.8mm, IPC Medium Density)
footprint MF05A_L (SOT23, 5-Leads, Body 2.9x1.6mm, Pitch 0.95mm, Lead Span 2.8mm, IPC High Density)
footprint MF05A_M (SOT23, 5-Leads, Body 2.9x1.6mm, Pitch 0.95mm, Lead Span 2.8mm, IPC Low Density)
pins: 1 IN (power), 2 GND (power), 3 EN (in), 4 NC, 5 OUT (power)

## LP3984IMF-1.8/NOPB
designator U?
Micropower, 150mA Ultra Low-Dropout CMOS Voltage Regulator in Subminiature 4-I/O Micro SMD Package, 5-pin SOT-23, Pb-Free; PartNumber: LP3984IMF-1.8/NOPB; Manufacturer: National Semiconductor; PackageTopMarking: LEBB*XTT; PowerWise: N; CompType: LDO IC; High-Reliability: Y; DatasheetVersion: May-2004; PackageVersion: revD, Aug-2008; PackageReference: MF05A; PackageDescription: Molded SOT-23, .115 x .063 x .040 in Body, 5 Lead, .0375 in Pitch; RoHS: Y; PinCount: 5; ComponentLink1Description: Manufacturer URL; ComponentLink1URL: http://www.national.com/; ComponentLink2Description: LP3984 Datasheet; ComponentLink2URL: http://www.national.com/ds/LP/LP3984.pdf; ComponentLink3Description: LP3984 Web Page; ComponentLink3URL: http://www.national.com/pf/LP/LP3984.html; ComponentLink4Description: MF05A Package Page; ComponentLink4URL: http://www.national.com/packaging/folders/mf05a.html
footprint MF05A_N (SOT23, 5-Leads, Body 2.9x1.6mm, Pitch 0.95mm, Lead Span 2.8mm, IPC Medium Density)
footprint MF05A_L (SOT23, 5-Leads, Body 2.9x1.6mm, Pitch 0.95mm, Lead Span 2.8mm, IPC High Density)
footprint MF05A_M (SOT23, 5-Leads, Body 2.9x1.6mm, Pitch 0.95mm, Lead Span 2.8mm, IPC Low Density)
pins: 1 IN (power), 2 GND (power), 3 EN (in), 4 NC, 5 OUT (power)

## LP3984IMF-3.1
designator U?
Micropower, 150mA Ultra Low-Dropout CMOS Voltage Regulator in Subminiature 4-I/O Micro SMD Package, 5-pin SOT-23; PartNumber: LP3984IMF-3.1; Manufacturer: National Semiconductor; PackageTopMarking: LEDB*XTT; PowerWise: N; CompType: LDO IC; High-Reliability: Y; DatasheetVersion: May-2004; PackageVersion: revD, Aug-2008; PackageReference: MF05A; PackageDescription: Molded SOT-23, .115 x .063 x .040 in Body, 5 Lead, .0375 in Pitch; RoHS: N; PinCount: 5; ComponentLink1Description: Manufacturer URL; ComponentLink1URL: http://www.national.com/; ComponentLink2Description: LP3984 Datasheet; ComponentLink2URL: http://www.national.com/ds/LP/LP3984.pdf; ComponentLink3Description: LP3984 Web Page; ComponentLink3URL: http://www.national.com/pf/LP/LP3984.html; ComponentLink4Description: MF05A Package Page; ComponentLink4URL: http://www.national.com/packaging/folders/mf05a.html
footprint MF05A_N (SOT23, 5-Leads, Body 2.9x1.6mm, Pitch 0.95mm, Lead Span 2.8mm, IPC Medium Density)
footprint MF05A_L (SOT23, 5-Leads, Body 2.9x1.6mm, Pitch 0.95mm, Lead Span 2.8mm, IPC High Density)
footprint MF05A_M (SOT23, 5-Leads, Body 2.9x1.6mm, Pitch 0.95mm, Lead Span 2.8mm, IPC Low Density)
pins: 1 IN (power), 2 GND (power), 3 EN (in), 4 NC, 5 OUT (power)

## LP3984IMF-3.1/NOPB
designator U?
Micropower, 150mA Ultra Low-Dropout CMOS Voltage Regulator in Subminiature 4-I/O Micro SMD Package, 5-pin SOT-23, Pb-Free; PartNumber: LP3984IMF-3.1/NOPB; Manufacturer: National Semiconductor; PackageTopMarking: LEDB*XTT; PowerWise: N; CompType: LDO IC; High-Reliability: Y; DatasheetVersion: May-2004; PackageVersion: revD, Aug-2008; PackageReference: MF05A; PackageDescription: Molded SOT-23, .115 x .063 x .040 in Body, 5 Lead, .0375 in Pitch; RoHS: Y; PinCount: 5; ComponentLink1Description: Manufacturer URL; ComponentLink1URL: http://www.national.com/; ComponentLink2Description: LP3984 Datasheet; ComponentLink2URL: http://www.national.com/ds/LP/LP3984.pdf; ComponentLink3Description: LP3984 Web Page; ComponentLink3URL: http://www.national.com/pf/LP/LP3984.html; ComponentLink4Description: MF05A Package Page; ComponentLink4URL: http://www.national.com/packaging/folders/mf05a.html
footprint MF05A_N (SOT23, 5-Leads, Body 2.9x1.6mm, Pitch 0.95mm, Lead Span 2.8mm, IPC Medium Density)
footprint MF05A_L (SOT23, 5-Leads, Body 2.9x1.6mm, Pitch 0.95mm, Lead Span 2.8mm, IPC High Density)
footprint MF05A_M (SOT23, 5-Leads, Body 2.9x1.6mm, Pitch 0.95mm, Lead Span 2.8mm, IPC Low Density)
pins: 1 IN (power), 2 GND (power), 3 EN (in), 4 NC, 5 OUT (power)

## LP3984IMFX-1.8
designator U?
Micropower, 150mA Ultra Low-Dropout CMOS Voltage Regulator in Subminiature 4-I/O Micro SMD Package, 5-pin SOT-23; PartNumber: LP3984IMFX-1.8; Manufacturer: National Semiconductor; PackageTopMarking: LEBB*XTT; PowerWise: N; CompType: LDO IC; High-Reliability: Y; DatasheetVersion: May-2004; PackageVersion: revD, Aug-2008; PackageReference: MF05A; PackageDescription: Molded SOT-23, .115 x .063 x .040 in Body, 5 Lead, .0375 in Pitch; RoHS: N; PinCount: 5; ComponentLink1Description: Manufacturer URL; ComponentLink1URL: http://www.national.com/; ComponentLink2Description: LP3984 Datasheet; ComponentLink2URL: http://www.national.com/ds/LP/LP3984.pdf; ComponentLink3Description: LP3984 Web Page; ComponentLink3URL: http://www.national.com/pf/LP/LP3984.html; ComponentLink4Description: MF05A Package Page; ComponentLink4URL: http://www.national.com/packaging/folders/mf05a.html
footprint MF05A_N (SOT23, 5-Leads, Body 2.9x1.6mm, Pitch 0.95mm, Lead Span 2.8mm, IPC Medium Density)
footprint MF05A_L (SOT23, 5-Leads, Body 2.9x1.6mm, Pitch 0.95mm, Lead Span 2.8mm, IPC High Density)
footprint MF05A_M (SOT23, 5-Leads, Body 2.9x1.6mm, Pitch 0.95mm, Lead Span 2.8mm, IPC Low Density)
pins: 1 IN (power), 2 GND (power), 3 EN (in), 4 NC, 5 OUT (power)

## LP3984IMFX-1.8/NOPB
designator U?
Micropower, 150mA Ultra Low-Dropout CMOS Voltage Regulator in Subminiature 4-I/O Micro SMD Package, 5-pin SOT-23, Pb-Free; PartNumber: LP3984IMFX-1.8/NOPB; Manufacturer: National Semiconductor; PackageTopMarking: LEBB*XTT; PowerWise: N; CompType: LDO IC; High-Reliability: Y; DatasheetVersion: May-2004; PackageVersion: revD, Aug-2008; PackageReference: MF05A; PackageDescription: Molded SOT-23, .115 x .063 x .040 in Body, 5 Lead, .0375 in Pitch; RoHS: Y; PinCount: 5; ComponentLink1Description: Manufacturer URL; ComponentLink1URL: http://www.national.com/; ComponentLink2Description: LP3984 Datasheet; ComponentLink2URL: http://www.national.com/ds/LP/LP3984.pdf; ComponentLink3Description: LP3984 Web Page; ComponentLink3URL: http://www.national.com/pf/LP/LP3984.html; ComponentLink4Description: MF05A Package Page; ComponentLink4URL: http://www.national.com/packaging/folders/mf05a.html
footprint MF05A_N (SOT23, 5-Leads, Body 2.9x1.6mm, Pitch 0.95mm, Lead Span 2.8mm, IPC Medium Density)
footprint MF05A_L (SOT23, 5-Leads, Body 2.9x1.6mm, Pitch 0.95mm, Lead Span 2.8mm, IPC High Density)
footprint MF05A_M (SOT23, 5-Leads, Body 2.9x1.6mm, Pitch 0.95mm, Lead Span 2.8mm, IPC Low Density)
pins: 1 IN (power), 2 GND (power), 3 EN (in), 4 NC, 5 OUT (power)

## LP3984ITP-2.9
designator U?
Micropower, 150mA Ultra Low-Dropout CMOS Voltage Regulator in Subminiature 4-I/O Micro SMD Package, 4-pin Micro SMD; PartNumber: LP3984ITP-2.9; Manufacturer: National Semiconductor; PackageTopMarking: X*I; PowerWise: N; CompType: LDO IC; High-Reliability: Y; DatasheetVersion: May-2004; PackageVersion: revA, Feb-2002; PackageReference: TPA04EJA; PackageDescription: Thin Micro SMD, 4 Bump, 0.5mm Pitch; RoHS: N; PinCount: 4; Code_JEDEC: MO-211-BA; ComponentLink1Description: Manufacturer URL; ComponentLink1URL: http://www.national.com/; ComponentLink2Description: LP3984 Datasheet; ComponentLink2URL: http://www.national.com/ds/LP/LP3984.pdf; ComponentLink3Description: LP3984 Web Page; ComponentLink3URL: http://www.national.com/pf/LP/LP3984.html; ComponentLink4Description: TPA04EJA Package Page; ComponentLink4URL: http://www.national.com/packaging/folders/tpa04eja.html
footprint TPA04EJA (Micro SMD, 4-Leads, Body 0.98x0.88mm, Pitch 0.5mm, NSC Recommended)
pins: A1 GND (power), A2 EN (in), B1 OUT (power), B2 IN (power)

## LP3984ITP-2.9/NOPB
designator U?
Micropower, 150mA Ultra Low-Dropout CMOS Voltage Regulator in Subminiature 4-I/O Micro SMD Package, 4-pin Micro SMD, Pb-Free; PartNumber: LP3984ITP-2.9/NOPB; Manufacturer: National Semiconductor; PackageTopMarking: X*I; PowerWise: N; CompType: LDO IC; High-Reliability: Y; DatasheetVersion: May-2004; PackageVersion: revA, Feb-2002; PackageReference: TPA04EJA; PackageDescription: Thin Micro SMD, 4 Bump, 0.5mm Pitch; RoHS: Y; PinCount: 4; Code_JEDEC: MO-211-BA; ComponentLink1Description: Manufacturer URL; ComponentLink1URL: http://www.national.com/; ComponentLink2Description: LP3984 Datasheet; ComponentLink2URL: http://www.national.com/ds/LP/LP3984.pdf; ComponentLink3Description: LP3984 Web Page; ComponentLink3URL: http://www.national.com/pf/LP/LP3984.html; ComponentLink4Description: TPA04EJA Package Page; ComponentLink4URL: http://www.national.com/packaging/folders/tpa04eja.html
footprint TPA04EJA (Micro SMD, 4-Leads, Body 0.98x0.88mm, Pitch 0.5mm, NSC Recommended)
pins: A1 GND (power), A2 EN (in), B1 OUT (power), B2 IN (power)

## LP3984ITP-3.1/NOPB
designator U?
Micropower, 150mA Ultra Low-Dropout CMOS Voltage Regulator in Subminiature 4-I/O Micro SMD Package, 4-pin Micro SMD, Pb-Free; PartNumber: LP3984ITP-3.1/NOPB; Manufacturer: National Semiconductor; PackageTopMarking: X*I; PowerWise: N; CompType: LDO IC; High-Reliability: Y; DatasheetVersion: May-2004; PackageVersion: revA, Feb-2002; PackageReference: TPA04EJA; PackageDescription: Thin Micro SMD, 4 Bump, 0.5mm Pitch; RoHS: Y; PinCount: 4; Code_JEDEC: MO-211-BA; ComponentLink1Description: Manufacturer URL; ComponentLink1URL: http://www.national.com/; ComponentLink2Description: LP3984 Datasheet; ComponentLink2URL: http://www.national.com/ds/LP/LP3984.pdf; ComponentLink3Description: LP3984 Web Page; ComponentLink3URL: http://www.national.com/pf/LP/LP3984.html; ComponentLink4Description: TPA04EJA Package Page; ComponentLink4URL: http://www.national.com/packaging/folders/tpa04eja.html
footprint TPA04EJA (Micro SMD, 4-Leads, Body 0.98x0.88mm, Pitch 0.5mm, NSC Recommended)
pins: A1 GND (power), A2 EN (in), B1 OUT (power), B2 IN (power)

## LP3984ITPX-1.8/NOPB
designator U?
Micropower, 150mA Ultra Low-Dropout CMOS Voltage Regulator in Subminiature 4-I/O Micro SMD Package, 4-pin Micro SMD, Pb-Free; PartNumber: LP3984ITPX-1.8/NOPB; Manufacturer: National Semiconductor; PackageTopMarking: X*I; PowerWise: N; CompType: LDO IC; High-Reliability: Y; DatasheetVersion: May-2004; PackageVersion: revA, Feb-2002; PackageReference: TPA04EJA; PackageDescription: Thin Micro SMD, 4 Bump, 0.5mm Pitch; RoHS: Y; PinCount: 4; Code_JEDEC: MO-211-BA; ComponentLink1Description: Manufacturer URL; ComponentLink1URL: http://www.national.com/; ComponentLink2Description: LP3984 Datasheet; ComponentLink2URL: http://www.national.com/ds/LP/LP3984.pdf; ComponentLink3Description: LP3984 Web Page; ComponentLink3URL: http://www.national.com/pf/LP/LP3984.html; ComponentLink4Description: TPA04EJA Package Page; ComponentLink4URL: http://www.national.com/packaging/folders/tpa04eja.html
footprint TPA04EJA (Micro SMD, 4-Leads, Body 0.98x0.88mm, Pitch 0.5mm, NSC Recommended)
pins: A1 GND (power), A2 EN (in), B1 OUT (power), B2 IN (power)

## LP3984ITPX-3.1/NOPB
designator U?
Micropower, 150mA Ultra Low-Dropout CMOS Voltage Regulator in Subminiature 4-I/O Micro SMD Package, 4-pin Micro SMD, Pb-Free; PartNumber: LP3984ITPX-3.1/NOPB; Manufacturer: National Semiconductor; PackageTopMarking: X*I; PowerWise: N; CompType: LDO IC; High-Reliability: Y; DatasheetVersion: May-2004; PackageVersion: revA, Feb-2002; PackageReference: TPA04EJA; PackageDescription: Thin Micro SMD, 4 Bump, 0.5mm Pitch; RoHS: Y; PinCount: 4; Code_JEDEC: MO-211-BA; ComponentLink1Description: Manufacturer URL; ComponentLink1URL: http://www.national.com/; ComponentLink2Description: LP3984 Datasheet; ComponentLink2URL: http://www.national.com/ds/LP/LP3984.pdf; ComponentLink3Description: LP3984 Web Page; ComponentLink3URL: http://www.national.com/pf/LP/LP3984.html; ComponentLink4Description: TPA04EJA Package Page; ComponentLink4URL: http://www.national.com/packaging/folders/tpa04eja.html
footprint TPA04EJA (Micro SMD, 4-Leads, Body 0.98x0.88mm, Pitch 0.5mm, NSC Recommended)
pins: A1 GND (power), A2 EN (in), B1 OUT (power), B2 IN (power)

## LP3985IBP-2.5
designator U?
Micropower, 150mA Low-Noise Ultra Low-Dropout CMOS Voltage Regulator, 5-pin Micro SMD; PartNumber: LP3985IBP-2.5; Manufacturer: National Semiconductor; PackageTopMarking: XV*I; PowerWise: N; CompType: LDO IC; High-Reliability: Y; DatasheetVersion: Aug-2005; PackageVersion: revC, Feb-2002; PackageReference: BPA05DNC; PackageDescription: Micro SMD, 5 Bump, 0.5mm Pitch; RoHS: N; PinCount: 5; ComponentLink1Description: Manufacturer URL; ComponentLink1URL: http://www.national.com/; ComponentLink2Description: LP3985 Datasheet; ComponentLink2URL: http://www.national.com/ds/LP/LP3985.pdf; ComponentLink3Description: LP3985 Web Page; ComponentLink3URL: http://www.national.com/pf/LP/LP3985.html; ComponentLink4Description: BPA05DNC Package Page; ComponentLink4URL: http://www.national.com/packaging/folders/bpa05dnc.html
footprint BPA05DNC (Micro SMD, 5-Leads, Body 1.41x0.85mm, Pitch 0.5mm, NSC Recommended)
pins: A1 EN (in), A3 BYP, B2 GND (power), C1 OUT (power), C3 IN (power)

## LP3985IM5-2.5
designator U?
Micropower, 150mA Low-Noise Ultra Low-Dropout CMOS Voltage Regulator, 5-pin SOT-23; PartNumber: LP3985IM5-2.5; Manufacturer: National Semiconductor; PackageTopMarking: LCSB*XTT; PowerWise: N; CompType: LDO IC; High-Reliability: Y; DatasheetVersion: Aug-2005; PackageVersion: revD, Aug-2008; PackageReference: MF05A; PackageDescription: Molded SOT-23, .115 x .063 x .040 in Body, 5 Lead, .0375 in Pitch; RoHS: N; PinCount: 5; ComponentLink1Description: Manufacturer URL; ComponentLink1URL: http://www.national.com/; ComponentLink2Description: LP3985 Datasheet; ComponentLink2URL: http://www.national.com/ds/LP/LP3985.pdf; ComponentLink3Description: LP3985 Web Page; ComponentLink3URL: http://www.national.com/pf/LP/LP3985.html; ComponentLink4Description: MF05A Package Page; ComponentLink4URL: http://www.national.com/packaging/folders/mf05a.html
footprint MF05A_N (SOT23, 5-Leads, Body 2.9x1.6mm, Pitch 0.95mm, Lead Span 2.8mm, IPC Medium Density)
footprint MF05A_L (SOT23, 5-Leads, Body 2.9x1.6mm, Pitch 0.95mm, Lead Span 2.8mm, IPC High Density)
footprint MF05A_M (SOT23, 5-Leads, Body 2.9x1.6mm, Pitch 0.95mm, Lead Span 2.8mm, IPC Low Density)
pins: 1 IN (power), 2 GND (power), 3 EN (in), 4 BYP, 5 OUT (power)

## LP3985IM5-2.5/NOPB
designator U?
Micropower, 150mA Low-Noise Ultra Low-Dropout CMOS Voltage Regulator, 5-pin SOT-23, Pb-Free; PartNumber: LP3985IM5-2.5/NOPB; Manufacturer: National Semiconductor; PackageTopMarking: LCSB*XTT; PowerWise: N; CompType: LDO IC; High-Reliability: Y; DatasheetVersion: Aug-2005; PackageVersion: revD, Aug-2008; PackageReference: MF05A; PackageDescription: Molded SOT-23, .115 x .063 x .040 in Body, 5 Lead, .0375 in Pitch; RoHS: Y; PinCount: 5; ComponentLink1Description: Manufacturer URL; ComponentLink1URL: http://www.national.com/; ComponentLink2Description: LP3985 Datasheet; ComponentLink2URL: http://www.national.com/ds/LP/LP3985.pdf; ComponentLink3Description: LP3985 Web Page; ComponentLink3URL: http://www.national.com/pf/LP/LP3985.html; ComponentLink4Description: MF05A Package Page; ComponentLink4URL: http://www.national.com/packaging/folders/mf05a.html
footprint MF05A_N (SOT23, 5-Leads, Body 2.9x1.6mm, Pitch 0.95mm, Lead Span 2.8mm, IPC Medium Density)
footprint MF05A_L (SOT23, 5-Leads, Body 2.9x1.6mm, Pitch 0.95mm, Lead Span 2.8mm, IPC High Density)
footprint MF05A_M (SOT23, 5-Leads, Body 2.9x1.6mm, Pitch 0.95mm, Lead Span 2.8mm, IPC Low Density)
pins: 1 IN (power), 2 GND (power), 3 EN (in), 4 BYP, 5 OUT (power)